# EAGLE library part SN75240PW (library SN75240PW)
Dual USB Port Transient Suppressor Source: Datasheet <http://docs-emea.rs-online.com/webdocs/0c81/0900766b80c81ead.pdf>
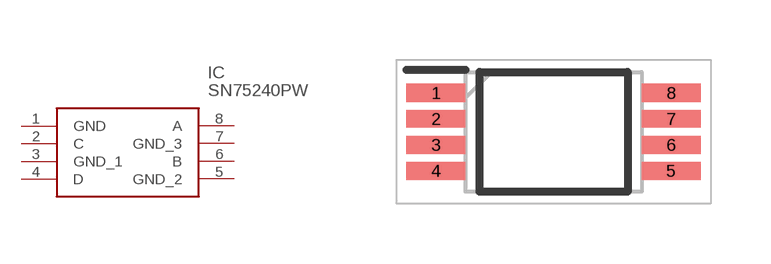
[diagram p0: symbol with the pads of SOP65P640X120-8N; footprint SOP65P640X120-8N]

Designator prefix IC

## SN75240PW (Description: Dual USB Port Transient Suppressor; Height: 1.2mm; Manufacturer_Name: Texas Instruments; Manufacturer_Part_Number: SN75240PW; Mouser_Part_Number: 595-SN75240PW; Mouser_Price-Stock: https://www.mouser.com/Search/Refine.aspx?Keyword=595-SN75240PW; RS_Part_Number: 6199853P; RS_Price-Stock: http://uk.rs-online.com/web/p/products/6199853P)  [SOP65P640X120-8N]
1  GND  pwr
2  C
3  GND_1  pwr
4  D
5  GND_2  pwr
6  B
7  GND_3  pwr
8  A

## Footprint SOP65P640X120-8N (pad centres in mm)
PW(R-PDSO-G8)
smd 1.475 x 0.45: 1 -2.938,0.975; 2 -2.938,0.325; 3 -2.938,-0.325; 4 -2.938,-0.975; 5 2.938,-0.975; 6 2.938,-0.325; 7 2.938,0.325; 8 2.938,0.975